# EAGLE library part NUD3105D (library haptic-inu)
MOSFET Relay, Inductive Load Driver, Silicon SMALLBLOCK, Features 0.5 Ampere, 8.0 V Clamp
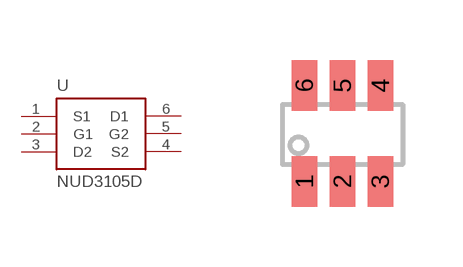
[diagram p9: symbol with the pads of SC-74; footprint SC-74]

Designator prefix -

## NUD3105DSC-74  [SC-74]
1  S1
2  G1
3  D2
4  S2
5  G2
6  D1

## Footprint SC-74 (pad centres in mm)
smd 0.635 x 1.27: 1 -0.45,-1.3; 2 0.5,-1.3; 3 1.45,-1.3; 4 1.45,1.1; 5 0.5,1.1; 6 -0.45,1.1